# Altium footprint library footprints.PcbLib: 7 footprints
Each footprint in its own frame and in the unit in brackets; x right, y up, seen from the top. Pads: shape width x height; smd on the part's side, far side on the other; paste and mask are expansions set on the pad; w line width, h text height; cw(c..) or ccw(c..) is an arc to the next point about the centre after c.
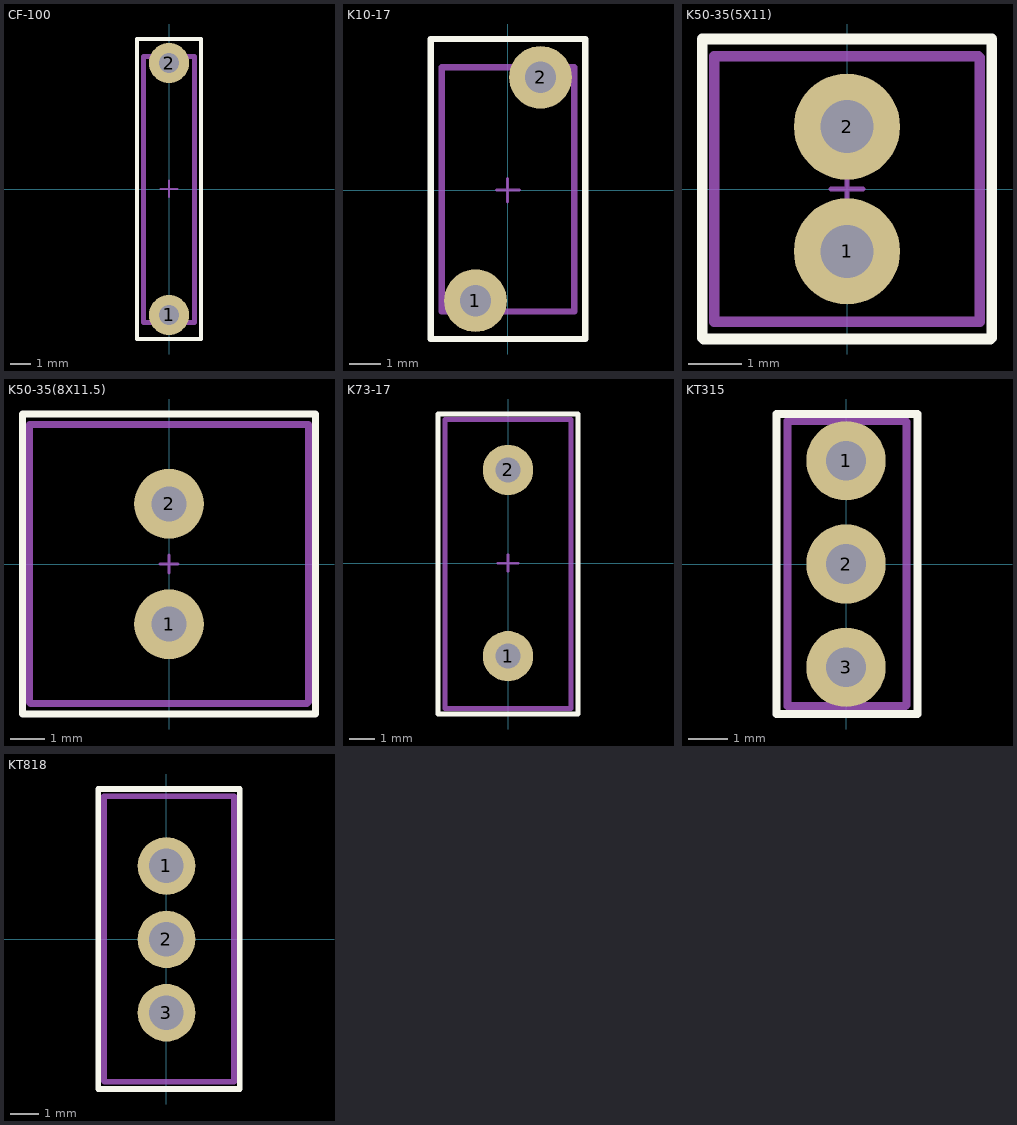
[diagram p0: the footprints below, top view; thin cyan lines are the x and y axes]

## CF-100 [mm]
pads (2):
  round 2 hole 1: 1(0,-6.3) 2(0,6.3)
Top Overlay:
  lines w0.2: -1.6,-7.5 -1.5,-7.5 1.6,-7.5 1.6,7.5 -1.5,7.5 -1.6,7.5 -1.6,-7.2 -1.6,-7.5
Top Assy:
  lines w0.254: -1.27,-6.665 0,-6.665 1.27,-6.665 1.27,6.63 -0.77,6.63 -1.27,6.63 -1.27,-6.665
Border:
  lines w0.1: -0.425,0 0.425,0 ; 0,-0.4 0,0.425 ; -1.6,-7.5 -1.6,7.5 1.575,7.5 1.6,7.475 1.6,-7.5 -1.6,-7.5
3D body "SW3dPS-resistor 0.25w.STEP": height 2.54, standoff -3.05, extent -1.27,-6.629 1.27,6.63

## K10-17 [mm]
pads (2):
  round 2 hole 1: 1(-1.025,-3.525) 2(1.05,3.6)
Top Overlay:
  lines w0.2: -2.45,-4.75 2.475,-4.75 2.475,4.825 -2.45,4.825 -2.45,-4.75
Top Assy:
  lines w0.2: -2.1,-3.875 2.125,-3.875 2.125,3.925 -2.1,3.925 -2.1,-3.875
Border:
  lines w0.1: -0.35,0 0.375,0 ; 0,-0.375 0,0.375 ; -2.45,-4.75 2.475,-4.75 2.475,4.825 -2.45,4.825 -2.45,-4.75
3D body "User Library-Y2222.step": height 8.1, standoff -3.5, extent -2.1,-3.875 2.1,3.925

## K50-35(5X11) [mm]
pads (2):
  round 2 hole 1: 1(0,-1.175) 2(0,1.175)
Top Overlay:
  lines w0.2: -2.725,-2.8 -2.725,2.825 2.725,2.825 2.725,-2.8 2.7,-2.825 1.344,-2.825 -1.369,-2.825 -2.7,-2.825 -2.725,-2.8
Top Assy:
  lines w0.2: -2.5,-2.5 -2.5,2.5 2.475,2.5 2.5,2.475 2.5,-2.5 -2.5,-2.5
Border:
  lines w0.1: -0.3,0 0.3,0 ; 0,-0.275 0,0.275 ; -2.725,-2.825 2.725,-2.825 2.725,2.825 -2.725,2.825 -2.725,-2.825
3D body "CircuitWorks-ELECTROLITIC CAPACITOR RADIAL 5X11.step": height 12.2, standoff -1.3, extent -2.5,-2.5 2.5,2.5

## K50-35(8X11.5) [mm]
pads (2):
  round 2 hole 1: 1(0,-1.725) 2(0,1.725)
Top Overlay:
  lines w0.2: -4.2,-4.3 4.2,-4.3 4.2,4.3 -4.2,4.3 -4.2,-4.3
Top Assy:
  lines w0.2: -4,-3.975 -4,4 -3.975,4 4,4 4,-3.95 3.95,-4 -3.975,-4 -4,-3.975
Border:
  lines w0.1: -0.25,0 0.25,0 ; 0,-0.25 0,0.25 ; -4.2,-4.3 4.2,-4.3 4.2,4.3 -4.2,4.3 -4.2,-4.3
3D body "User Library-Cap-EL(8x11_5-3_5).step": height 13.2, standoff -1.6, extent -3.998,-4 3.998,4.002

## K73-17 [mm]
pads (2):
  round 2 hole 1: 1(0,-3.7) 2(0,3.7)
Top Overlay:
  lines w0.2: -2.775,-6 2.775,-6 2.775,5.925 -2.775,5.925 -2.775,-6
Top Assy:
  lines w0.2: -2.5,-5.775 2.5,-5.775 2.5,5.7 -2.5,5.7 -2.5,-5.775
Border:
  lines w0.1: -0.4,0 0.4,0 ; 0,-0.325 0,0.325 ; -2.775,-6 2.775,-6 2.775,5.925 -2.775,5.925 -2.775,-6
3D body "User Library-K10-17 11_5x5x9.STEP": height 12, standoff -2.5, extent -2.5,-5.8 2.5,5.7

## KT315 [mm]
pads (3):
  round 2 hole 1: 1(0,2.6) 2(0,0) 3(0,-2.6)
Top Overlay:
  lines w0.2: -1.75,-3.775 -1.75,3.775 1.8,3.775 1.8,-3.775 -1.75,-3.775
Top Assy:
  lines w0.2: -1.475,-3.575 -1.475,3.6 1.5,3.6 1.525,3.575 1.525,-3.55 1.5,-3.575 -1.475,-3.575
Border:
  lines w0.1: -0.5,0 0.5,0 ; 0,-0.45 0,0.45 ; -1.75,-3.775 1.8,-3.775 1.8,3.75 1.775,3.775 -1.75,3.775 -1.75,-3.775
3D body "User Library-KT315.step": height 7.7, standoff -3.3, extent -1.472,-3.571 1.521,3.622

## KT818 [mm]
pads (3):
  round 2 hole 1.2: 1(0,2.55) 2(0,0) 3(0,-2.55)
Top Overlay:
  lines w0.2: -2.375,-5.2 2.55,-5.2 2.55,5.225 -2.375,5.225 -2.375,-5.2
Top Assy:
  lines w0.2: -2.175,-4.925 -2.15,-4.95 2.35,-4.95 2.35,4.975 -2.175,4.975 -2.175,-4.925
Border:
  lines w0.1: -0.425,0 0.425,0 ; 0,-0.4 0,0.4 ; -2.375,-5.2 -2.375,5.225 2.55,5.225 2.55,-5.2 -2.375,-5.2
3D body "User Library-Generic TO-220.step": height 19.66, standoff -4, extent -2.335,-4.935 2.2,4.985